# Altium integrated library Analog Devices Switches and Multiplexers Analog Switches.IntLib: 575 symbols (part 12 of 23)
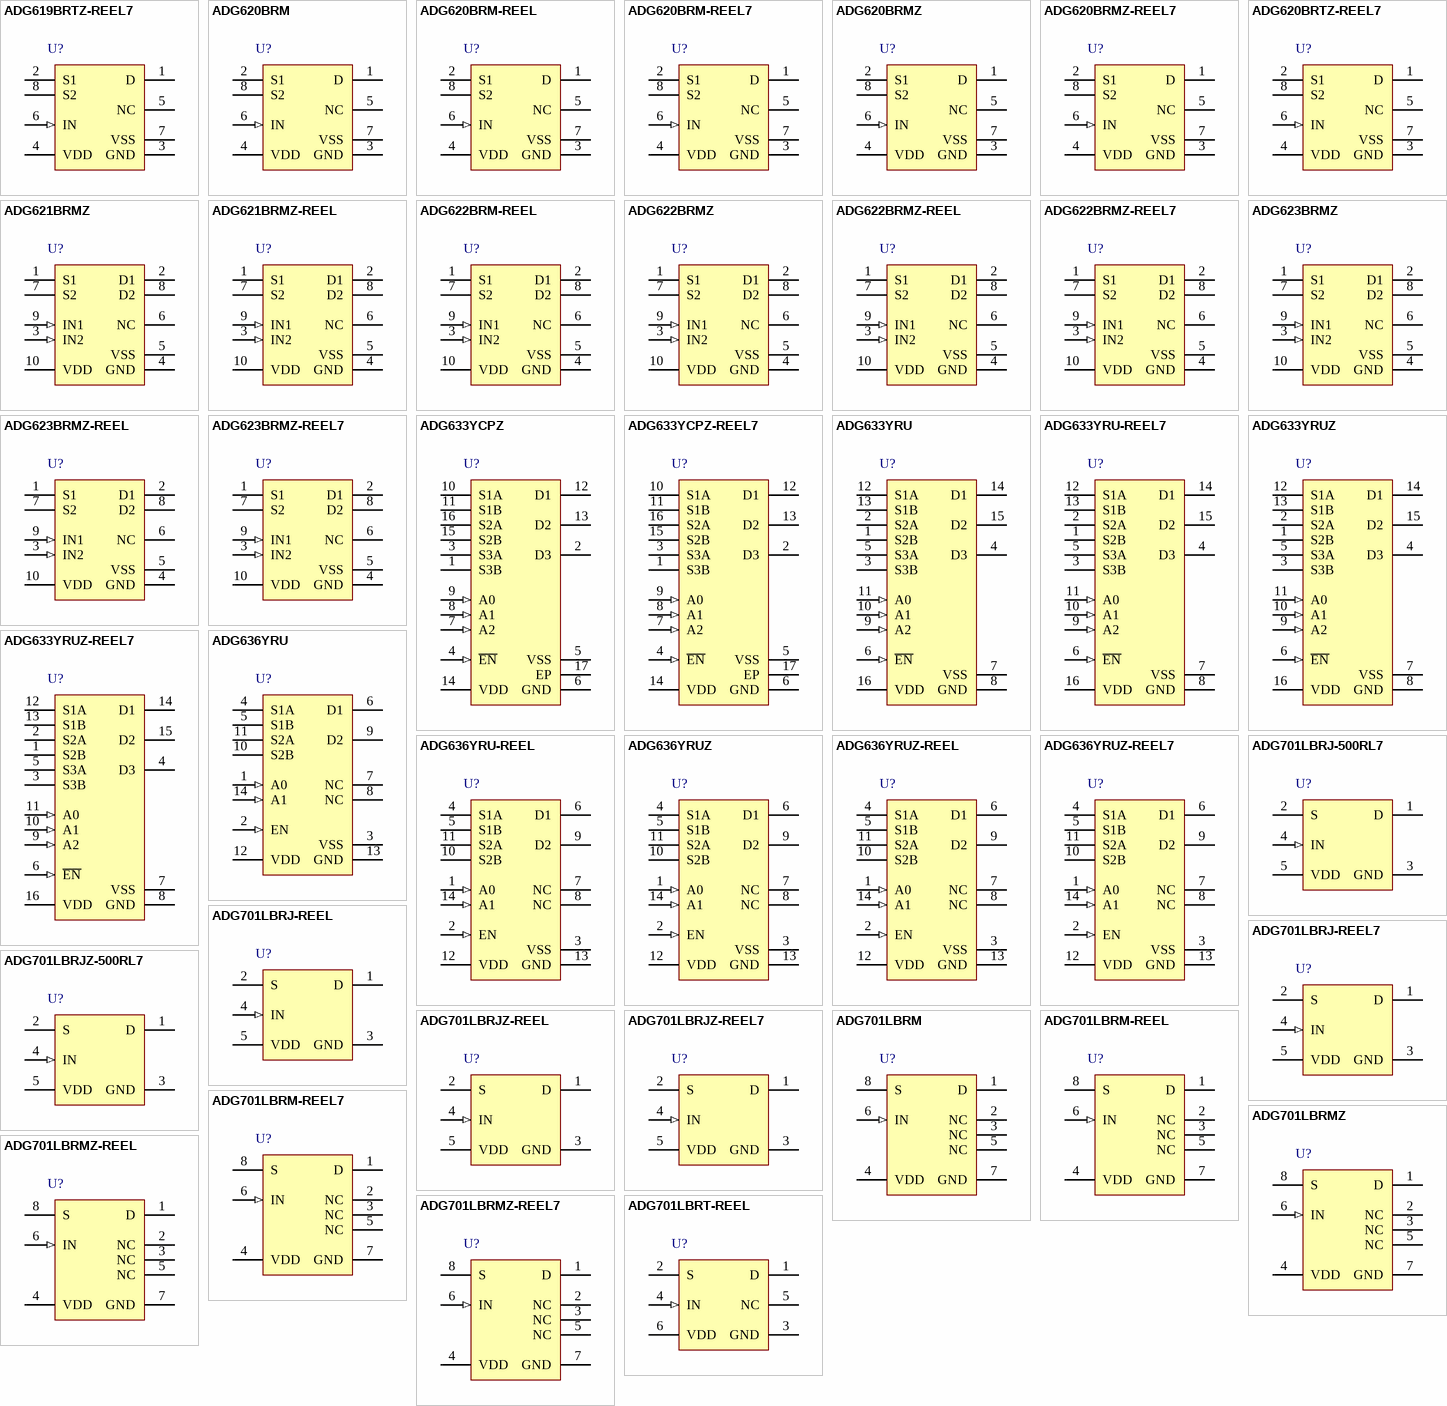
[diagram p26: symbols ADG619BRTZ-REEL7 to ADG701LBRT-REEL]

## ADG701LBRJ-500RL7
designator U?
CMOS Low Voltage 2 Ohm SPST Switch, -40 to 85 degC, 5-pin SOT23 (RJ-5), Reel; Manufacturer: Analog Devices; PartNumber: ADG701LBRJ-500RL7; Id, Is (ON): 10pA, 10pA; Max Pos Supply: 5.5V; Min Pos Supply: 1.8V; Power Dissipation: 5uW; Ron (ohms): 2; DatasheetVersion: Rev. 0; PackageVersion: 121608-A , 12/2008; PackageReference: RJ-5; PackageDescription: 5-Pin Small Outline Transistor Package, Body 2.9 x 1.6 mm, Pitch 0.95 mm; Supplier 1: Digi-Key; Supplier Part Number 1: ADG701LBRJ-500RL7-ND; Supplier 2: Mouser; Supplier Part Number 2: 584-ADG701LBRJ-500R7; Configuration: SPST; Is OFF: 10pA, 10pA; Packing: Reel; Mounting Technology: Surface Mount; Code_JEDEC: MO-178-AA; ComponentLink1Description: Manufacturer URL; ComponentLink1URL: http://www.analog.com/en/index.html; ComponentLink2Description: Datasheet; ComponentLink2URL: http://www.analog.com/static/imported-files/data_sheets/ADG701L_702L.pdf; ComponentLink3Description: Package Specification; ComponentLink3URL: http://www.analog.com/static/imported-files/packages/PKG_PDF/SOT-23(RJ)/RJ_5.pdf
footprint ADI-RJ-5_N (SOT-23, 5-Leads, Body 2.9x1.6mm, Pitch 0.95mm, IPC Medium Density)
footprint ADI-RJ-5_L (SOT-23, 5-Leads, Body 2.9x1.6mm, Pitch 0.95mm, IPC High Density)
footprint ADI-RJ-5_M (SOT-23, 5-Leads, Body 2.9x1.6mm, Pitch 0.95mm, IPC Low Density)
pins: 1 D "Drain Terminal. May be an input or output.", 2 S "Source Terminal. May be an input or output.", 3 GND (power) "Ground (0 V) Reference.", 4 IN (in) "Logic Control Input.", 5 VDD (power) "Most Positive Power Supply Potential."

## ADG701LBRJ-REEL
designator U?
CMOS Low Voltage 2 Ohm SPST Switch, -40 to 85 degC, 5-pin SOT23 (RJ-5), Reel; Manufacturer: Analog Devices; PartNumber: ADG701LBRJ-REEL; Id, Is (ON): 10pA, 10pA; Max Pos Supply: 5.5V; Min Pos Supply: 1.8V; Power Dissipation: 5uW; Ron (ohms): 2; DatasheetVersion: Rev. 0; PackageVersion: 121608-A , 12/2008; PackageReference: RJ-5; PackageDescription: 5-Pin Small Outline Transistor Package, Body 2.9 x 1.6 mm, Pitch 0.95 mm; Supplier 1: Digi-Key; Supplier Part Number 1: ADG701LBRJ-REEL-ND; Supplier 2: Mouser; Supplier Part Number 2: 584-ADG701LBRJ-R; Configuration: SPST; Is OFF: 10pA, 10pA; Packing: Reel; Mounting Technology: Surface Mount; Code_JEDEC: MO-178-AA; ComponentLink1Description: Manufacturer URL; ComponentLink1URL: http://www.analog.com/en/index.html; ComponentLink2Description: Datasheet; ComponentLink2URL: http://www.analog.com/static/imported-files/data_sheets/ADG701L_702L.pdf; ComponentLink3Description: Package Specification; ComponentLink3URL: http://www.analog.com/static/imported-files/packages/PKG_PDF/SOT-23(RJ)/RJ_5.pdf
footprint ADI-RJ-5_N (SOT-23, 5-Leads, Body 2.9x1.6mm, Pitch 0.95mm, IPC Medium Density)
footprint ADI-RJ-5_L (SOT-23, 5-Leads, Body 2.9x1.6mm, Pitch 0.95mm, IPC High Density)
footprint ADI-RJ-5_M (SOT-23, 5-Leads, Body 2.9x1.6mm, Pitch 0.95mm, IPC Low Density)
pins: 1 D "Drain Terminal. May be an input or output.", 2 S "Source Terminal. May be an input or output.", 3 GND (power) "Ground (0 V) Reference.", 4 IN (in) "Logic Control Input.", 5 VDD (power) "Most Positive Power Supply Potential."

## ADG701LBRJ-REEL7
designator U?
CMOS Low Voltage 2 Ohm SPST Switch, -40 to 85 degC, 5-pin SOT23 (RJ-5), Reel; Manufacturer: Analog Devices; PartNumber: ADG701LBRJ-REEL7; Id, Is (ON): 10pA, 10pA; Max Pos Supply: 5.5V; Min Pos Supply: 1.8V; Power Dissipation: 5uW; Ron (ohms): 2; DatasheetVersion: Rev. 0; PackageVersion: 121608-A , 12/2008; PackageReference: RJ-5; PackageDescription: 5-Pin Small Outline Transistor Package, Body 2.9 x 1.6 mm, Pitch 0.95 mm; Supplier 1: Digi-Key; Supplier Part Number 1: ADG701LBRJ-REEL7TR-ND; Supplier 2: Digi-Key; Supplier Part Number 2: ADG701LBRJ-REEL7CT-ND; Supplier 3: Digi-Key; Supplier Part Number 3: ADG701LBRJ-REEL7DKR-ND; Supplier 4: Mouser; Supplier Part Number 4: 584-ADG701LBRJ-R7; Configuration: SPST; Is OFF: 10pA, 10pA; Packing: Reel; Mounting Technology: Surface Mount; Code_JEDEC: MO-178-AA; ComponentLink1Description: Manufacturer URL; ComponentLink1URL: http://www.analog.com/en/index.html; ComponentLink2Description: Datasheet; ComponentLink2URL: http://www.analog.com/static/imported-files/data_sheets/ADG701L_702L.pdf; ComponentLink3Description: Package Specification; ComponentLink3URL: http://www.analog.com/static/imported-files/packages/PKG_PDF/SOT-23(RJ)/RJ_5.pdf
footprint ADI-RJ-5_N (SOT-23, 5-Leads, Body 2.9x1.6mm, Pitch 0.95mm, IPC Medium Density)
footprint ADI-RJ-5_L (SOT-23, 5-Leads, Body 2.9x1.6mm, Pitch 0.95mm, IPC High Density)
footprint ADI-RJ-5_M (SOT-23, 5-Leads, Body 2.9x1.6mm, Pitch 0.95mm, IPC Low Density)
pins: 1 D "Drain Terminal. May be an input or output.", 2 S "Source Terminal. May be an input or output.", 3 GND (power) "Ground (0 V) Reference.", 4 IN (in) "Logic Control Input.", 5 VDD (power) "Most Positive Power Supply Potential."

## ADG701LBRJZ-500RL7
designator U?
CMOS Low Voltage 2 Ohm SPST Switch, -40 to 85 degC, 5-pin SOT23 (RJ-5), Reel; Manufacturer: Analog Devices; PartNumber: ADG701LBRJZ-500RL7; Id, Is (ON): 10pA, 10pA; Max Pos Supply: 5.5V; Min Pos Supply: 1.8V; Power Dissipation: 5uW; Ron (ohms): 2; DatasheetVersion: Rev. 0; PackageVersion: 121608-A , 12/2008; PackageReference: RJ-5; PackageDescription: 5-Pin Small Outline Transistor Package, Body 2.9 x 1.6 mm, Pitch 0.95 mm; Supplier 1: Digi-Key; Supplier Part Number 1: ADG701LBRJZ-500RL7-ND; Supplier 2: Mouser; Supplier Part Number 2: 584-ADG701LBRJZ500R7; Configuration: SPST; Is OFF: 10pA, 10pA; Packing: Reel; Mounting Technology: Surface Mount; Code_JEDEC: MO-178-AA; ComponentLink1Description: Manufacturer URL; ComponentLink1URL: http://www.analog.com/en/index.html; ComponentLink2Description: Datasheet; ComponentLink2URL: http://www.analog.com/static/imported-files/data_sheets/ADG701L_702L.pdf; ComponentLink3Description: Package Specification; ComponentLink3URL: http://www.analog.com/static/imported-files/packages/PKG_PDF/SOT-23(RJ)/RJ_5.pdf
footprint ADI-RJ-5_N (SOT-23, 5-Leads, Body 2.9x1.6mm, Pitch 0.95mm, IPC Medium Density)
footprint ADI-RJ-5_L (SOT-23, 5-Leads, Body 2.9x1.6mm, Pitch 0.95mm, IPC High Density)
footprint ADI-RJ-5_M (SOT-23, 5-Leads, Body 2.9x1.6mm, Pitch 0.95mm, IPC Low Density)
pins: 1 D "Drain Terminal. May be an input or output.", 2 S "Source Terminal. May be an input or output.", 3 GND (power) "Ground (0 V) Reference.", 4 IN (in) "Logic Control Input.", 5 VDD (power) "Most Positive Power Supply Potential."

## ADG701LBRJZ-REEL
designator U?
CMOS Low Voltage 2 Ohm SPST Switch, -40 to 85 degC, 5-pin SOT23 (RJ-5), Reel; Manufacturer: Analog Devices; PartNumber: ADG701LBRJZ-REEL; Id, Is (ON): 10pA, 10pA; Max Pos Supply: 5.5V; Min Pos Supply: 1.8V; Power Dissipation: 5uW; Ron (ohms): 2; DatasheetVersion: Rev. 0; PackageVersion: 121608-A , 12/2008; PackageReference: RJ-5; PackageDescription: 5-Pin Small Outline Transistor Package, Body 2.9 x 1.6 mm, Pitch 0.95 mm; Supplier 1: Digi-Key; Supplier Part Number 1: ADG701LBRJZ-REEL-ND; Supplier 2: Mouser; Supplier Part Number 2: 584-ADG701LBRJZ-R; Configuration: SPST; Is OFF: 10pA, 10pA; Packing: Reel; Mounting Technology: Surface Mount; Code_JEDEC: MO-178-AA; ComponentLink1Description: Manufacturer URL; ComponentLink1URL: http://www.analog.com/en/index.html; ComponentLink2Description: Datasheet; ComponentLink2URL: http://www.analog.com/static/imported-files/data_sheets/ADG701L_702L.pdf; ComponentLink3Description: Package Specification; ComponentLink3URL: http://www.analog.com/static/imported-files/packages/PKG_PDF/SOT-23(RJ)/RJ_5.pdf
footprint ADI-RJ-5_N (SOT-23, 5-Leads, Body 2.9x1.6mm, Pitch 0.95mm, IPC Medium Density)
footprint ADI-RJ-5_L (SOT-23, 5-Leads, Body 2.9x1.6mm, Pitch 0.95mm, IPC High Density)
footprint ADI-RJ-5_M (SOT-23, 5-Leads, Body 2.9x1.6mm, Pitch 0.95mm, IPC Low Density)
pins: 1 D "Drain Terminal. May be an input or output.", 2 S "Source Terminal. May be an input or output.", 3 GND (power) "Ground (0 V) Reference.", 4 IN (in) "Logic Control Input.", 5 VDD (power) "Most Positive Power Supply Potential."

## ADG701LBRJZ-REEL7
designator U?
CMOS Low Voltage 2 Ohm SPST Switch, -40 to 85 degC, 5-pin SOT23 (RJ-5), Reel; Manufacturer: Analog Devices; PartNumber: ADG701LBRJZ-REEL7; Id, Is (ON): 10pA, 10pA; Max Pos Supply: 5.5V; Min Pos Supply: 1.8V; Power Dissipation: 5uW; Ron (ohms): 2; DatasheetVersion: Rev. 0; PackageVersion: 121608-A , 12/2008; PackageReference: RJ-5; PackageDescription: 5-Pin Small Outline Transistor Package, Body 2.9 x 1.6 mm, Pitch 0.95 mm; Supplier 1: Digi-Key; Supplier Part Number 1: ADG701LBRJZ-REEL7TR-ND; Supplier 2: Digi-Key; Supplier Part Number 2: ADG701LBRJZ-REEL7CT-ND; Supplier 3: Digi-Key; Supplier Part Number 3: ADG701LBRJZ-REEL7DKR-ND; Supplier 4: Mouser; Supplier Part Number 4: 584-ADG701LBRJZ-R7; Configuration: SPST; Is OFF: 10pA, 10pA; Packing: Reel; Mounting Technology: Surface Mount; Code_JEDEC: MO-178-AA; ComponentLink1Description: Manufacturer URL; ComponentLink1URL: http://www.analog.com/en/index.html; ComponentLink2Description: Datasheet; ComponentLink2URL: http://www.analog.com/static/imported-files/data_sheets/ADG701L_702L.pdf; ComponentLink3Description: Package Specification; ComponentLink3URL: http://www.analog.com/static/imported-files/packages/PKG_PDF/SOT-23(RJ)/RJ_5.pdf
footprint ADI-RJ-5_N (SOT-23, 5-Leads, Body 2.9x1.6mm, Pitch 0.95mm, IPC Medium Density)
footprint ADI-RJ-5_L (SOT-23, 5-Leads, Body 2.9x1.6mm, Pitch 0.95mm, IPC High Density)
footprint ADI-RJ-5_M (SOT-23, 5-Leads, Body 2.9x1.6mm, Pitch 0.95mm, IPC Low Density)
pins: 1 D "Drain Terminal. May be an input or output.", 2 S "Source Terminal. May be an input or output.", 3 GND (power) "Ground (0 V) Reference.", 4 IN (in) "Logic Control Input.", 5 VDD (power) "Most Positive Power Supply Potential."

## ADG701LBRM
designator U?
CMOS Low Voltage 2 Ohm SPST Switch, -40 to 85 degC, 8-pin SOP (RM-8), Tube; Manufacturer: Analog Devices; PartNumber: ADG701LBRM; Id, Is (ON): 10pA, 10pA; Max Pos Supply: 5.5V; Min Pos Supply: 1.8V; Power Dissipation: 5uW; Ron (ohms): 2; DatasheetVersion: Rev. 0; PackageVersion: Aug-05; PackageReference: RM-8; PackageDescription: 8-Pin Mini Small Outline Package, Body 3 x 3 mm, Pitch 0.65 mm; Supplier 1: Digi-Key; Supplier Part Number 1: ADG701LBRM-ND; Supplier 2: Mouser; Supplier Part Number 2: 584-ADG701LBRM; Configuration: SPST; Is OFF: 10pA, 10pA; Packing: Tube; Mounting Technology: Surface Mount; Code_JEDEC: MO-187-AA; ComponentLink1Description: Manufacturer URL; ComponentLink1URL: http://www.analog.com/en/index.html; ComponentLink2Description: Datasheet; ComponentLink2URL: http://www.analog.com/static/imported-files/data_sheets/ADG701L_702L.pdf; ComponentLink3Description: Package Specification; ComponentLink3URL: http://www.analog.com/static/imported-files/packages/PKG_PDF/MSOP%28RM%29/RM_8.pdf
footprint ADI-RM-8_N (SOP, 8-Leads, Body 3x3mm, Pitch 0.65mm, IPC Medium Density)
footprint ADI-RM-8_L (SOP, 8-Leads, Body 3x3mm, Pitch 0.65mm, IPC High Density)
footprint ADI-RM-8_M (SOP, 8-Leads, Body 3x3mm, Pitch 0.65mm, IPC Low Density)
pins: 1 D "Drain Terminal. Can be an input or an output.", 2 NC "No Connect. Do not connect to this pin.", 3 NC "No Connect. Do not connect to this pin.", 4 VDD (power) "Most Positive Power Supply Potential.", 5 NC "No Connect. Do not connect to this pin.", 6 IN (in) "Logic Control Input.", 7 GND (power) "Ground (0 V) Reference.", 8 S "Source Terminal. Can be an input or an output."

## ADG701LBRM-REEL
designator U?
CMOS Low Voltage 2 Ohm SPST Switch, -40 to 85 degC, 8-pin SOP (RM-8), Reel; Manufacturer: Analog Devices; PartNumber: ADG701LBRM-REEL; Id, Is (ON): 10pA, 10pA; Max Pos Supply: 5.5V; Min Pos Supply: 1.8V; Power Dissipation: 5uW; Ron (ohms): 2; DatasheetVersion: Rev. 0; PackageVersion: Aug-05; PackageReference: RM-8; PackageDescription: 8-Pin Mini Small Outline Package, Body 3 x 3 mm, Pitch 0.65 mm; Supplier 1: Digi-Key; Supplier Part Number 1: ADG701LBRM-REEL-ND; Supplier 2: Mouser; Supplier Part Number 2: 584-ADG701LBRM-R; Configuration: SPST; Is OFF: 10pA, 10pA; Packing: Reel; Mounting Technology: Surface Mount; Code_JEDEC: MO-187-AA; ComponentLink1Description: Manufacturer URL; ComponentLink1URL: http://www.analog.com/en/index.html; ComponentLink2Description: Datasheet; ComponentLink2URL: http://www.analog.com/static/imported-files/data_sheets/ADG701L_702L.pdf; ComponentLink3Description: Package Specification; ComponentLink3URL: http://www.analog.com/static/imported-files/packages/PKG_PDF/MSOP%28RM%29/RM_8.pdf
footprint ADI-RM-8_N (SOP, 8-Leads, Body 3x3mm, Pitch 0.65mm, IPC Medium Density)
footprint ADI-RM-8_L (SOP, 8-Leads, Body 3x3mm, Pitch 0.65mm, IPC High Density)
footprint ADI-RM-8_M (SOP, 8-Leads, Body 3x3mm, Pitch 0.65mm, IPC Low Density)
pins: 1 D "Drain Terminal. Can be an input or an output.", 2 NC "No Connect. Do not connect to this pin.", 3 NC "No Connect. Do not connect to this pin.", 4 VDD (power) "Most Positive Power Supply Potential.", 5 NC "No Connect. Do not connect to this pin.", 6 IN (in) "Logic Control Input.", 7 GND (power) "Ground (0 V) Reference.", 8 S "Source Terminal. Can be an input or an output."

## ADG701LBRM-REEL7
designator U?
CMOS Low Voltage 2 Ohm SPST Switch, -40 to 85 degC, 8-pin SOP (RM-8), Reel; Manufacturer: Analog Devices; PartNumber: ADG701LBRM-REEL7; Id, Is (ON): 10pA, 10pA; Max Pos Supply: 5.5V; Min Pos Supply: 1.8V; Power Dissipation: 5uW; Ron (ohms): 2; DatasheetVersion: Rev. 0; PackageVersion: Aug-05; PackageReference: RM-8; PackageDescription: 8-Pin Mini Small Outline Package, Body 3 x 3 mm, Pitch 0.65 mm; Supplier 1: Digi-Key; Supplier Part Number 1: ADG701LBRM-REEL7-ND; Supplier 2: Mouser; Supplier Part Number 2: 584-ADG701LBRM-R7; Configuration: SPST; Is OFF: 10pA, 10pA; Packing: Reel; Mounting Technology: Surface Mount; Code_JEDEC: MO-187-AA; ComponentLink1Description: Manufacturer URL; ComponentLink1URL: http://www.analog.com/en/index.html; ComponentLink2Description: Datasheet; ComponentLink2URL: http://www.analog.com/static/imported-files/data_sheets/ADG701L_702L.pdf; ComponentLink3Description: Package Specification; ComponentLink3URL: http://www.analog.com/static/imported-files/packages/PKG_PDF/MSOP%28RM%29/RM_8.pdf
footprint ADI-RM-8_N (SOP, 8-Leads, Body 3x3mm, Pitch 0.65mm, IPC Medium Density)
footprint ADI-RM-8_L (SOP, 8-Leads, Body 3x3mm, Pitch 0.65mm, IPC High Density)
footprint ADI-RM-8_M (SOP, 8-Leads, Body 3x3mm, Pitch 0.65mm, IPC Low Density)
pins: 1 D "Drain Terminal. Can be an input or an output.", 2 NC "No Connect. Do not connect to this pin.", 3 NC "No Connect. Do not connect to this pin.", 4 VDD (power) "Most Positive Power Supply Potential.", 5 NC "No Connect. Do not connect to this pin.", 6 IN (in) "Logic Control Input.", 7 GND (power) "Ground (0 V) Reference.", 8 S "Source Terminal. Can be an input or an output."

## ADG701LBRMZ
designator U?
CMOS Low Voltage 2 Ohm SPST Switch, -40 to 85 degC, 8-pin SOP (RM-8), Tube; Manufacturer: Analog Devices; PartNumber: ADG701LBRMZ; Id, Is (ON): 10pA, 10pA; Max Pos Supply: 5.5V; Min Pos Supply: 1.8V; Power Dissipation: 5uW; Ron (ohms): 2; DatasheetVersion: Rev. 0; PackageVersion: Aug-05; PackageReference: RM-8; PackageDescription: 8-Pin Mini Small Outline Package, Body 3 x 3 mm, Pitch 0.65 mm; Supplier 1: Digi-Key; Supplier Part Number 1: ADG701LBRMZ-ND; Supplier 2: Mouser; Supplier Part Number 2: 584-ADG701LBRMZ; Configuration: SPST; Is OFF: 10pA, 10pA; Packing: Tube; Mounting Technology: Surface Mount; Code_JEDEC: MO-187-AA; ComponentLink1Description: Manufacturer URL; ComponentLink1URL: http://www.analog.com/en/index.html; ComponentLink2Description: Datasheet; ComponentLink2URL: http://www.analog.com/static/imported-files/data_sheets/ADG701L_702L.pdf; ComponentLink3Description: Package Specification; ComponentLink3URL: http://www.analog.com/static/imported-files/packages/PKG_PDF/MSOP%28RM%29/RM_8.pdf
footprint ADI-RM-8_N (SOP, 8-Leads, Body 3x3mm, Pitch 0.65mm, IPC Medium Density)
footprint ADI-RM-8_L (SOP, 8-Leads, Body 3x3mm, Pitch 0.65mm, IPC High Density)
footprint ADI-RM-8_M (SOP, 8-Leads, Body 3x3mm, Pitch 0.65mm, IPC Low Density)
pins: 1 D "Drain Terminal. Can be an input or an output.", 2 NC "No Connect. Do not connect to this pin.", 3 NC "No Connect. Do not connect to this pin.", 4 VDD (power) "Most Positive Power Supply Potential.", 5 NC "No Connect. Do not connect to this pin.", 6 IN (in) "Logic Control Input.", 7 GND (power) "Ground (0 V) Reference.", 8 S "Source Terminal. Can be an input or an output."

## ADG701LBRMZ-REEL
designator U?
CMOS Low Voltage 2 Ohm SPST Switch, -40 to 85 degC, 8-pin SOP (RM-8), Reel; Manufacturer: Analog Devices; PartNumber: ADG701LBRMZ-REEL; Id, Is (ON): 10pA, 10pA; Max Pos Supply: 5.5V; Min Pos Supply: 1.8V; Power Dissipation: 5uW; Ron (ohms): 2; DatasheetVersion: Rev. 0; PackageVersion: Aug-05; PackageReference: RM-8; PackageDescription: 8-Pin Mini Small Outline Package, Body 3 x 3 mm, Pitch 0.65 mm; Supplier 1: Digi-Key; Supplier Part Number 1: ADG701LBRMZ-REEL-ND; Supplier 2: Mouser; Supplier Part Number 2: 584-ADG701LBRMZ-R; Configuration: SPST; Is OFF: 10pA, 10pA; Packing: Reel; Mounting Technology: Surface Mount; Code_JEDEC: MO-187-AA; ComponentLink1Description: Manufacturer URL; ComponentLink1URL: http://www.analog.com/en/index.html; ComponentLink2Description: Datasheet; ComponentLink2URL: http://www.analog.com/static/imported-files/data_sheets/ADG701L_702L.pdf; ComponentLink3Description: Package Specification; ComponentLink3URL: http://www.analog.com/static/imported-files/packages/PKG_PDF/MSOP%28RM%29/RM_8.pdf
footprint ADI-RM-8_N (SOP, 8-Leads, Body 3x3mm, Pitch 0.65mm, IPC Medium Density)
footprint ADI-RM-8_L (SOP, 8-Leads, Body 3x3mm, Pitch 0.65mm, IPC High Density)
footprint ADI-RM-8_M (SOP, 8-Leads, Body 3x3mm, Pitch 0.65mm, IPC Low Density)
pins: 1 D "Drain Terminal. Can be an input or an output.", 2 NC "No Connect. Do not connect to this pin.", 3 NC "No Connect. Do not connect to this pin.", 4 VDD (power) "Most Positive Power Supply Potential.", 5 NC "No Connect. Do not connect to this pin.", 6 IN (in) "Logic Control Input.", 7 GND (power) "Ground (0 V) Reference.", 8 S "Source Terminal. Can be an input or an output."

## ADG701LBRMZ-REEL7
designator U?
CMOS Low Voltage 2 Ohm SPST Switch, -40 to 85 degC, 8-pin SOP (RM-8), Reel; Manufacturer: Analog Devices; PartNumber: ADG701LBRMZ-REEL7; Id, Is (ON): 10pA, 10pA; Max Pos Supply: 5.5V; Min Pos Supply: 1.8V; Power Dissipation: 5uW; Ron (ohms): 2; DatasheetVersion: Rev. 0; PackageVersion: Aug-05; PackageReference: RM-8; PackageDescription: 8-Pin Mini Small Outline Package, Body 3 x 3 mm, Pitch 0.65 mm; Supplier 1: Digi-Key; Supplier Part Number 1: ADG701LBRMZ-REEL7-ND; Supplier 2: Mouser; Supplier Part Number 2: 584-ADG701LBRMZ-R7; Configuration: SPST; Is OFF: 10pA, 10pA; Packing: Reel; Mounting Technology: Surface Mount; Code_JEDEC: MO-187-AA; ComponentLink1Description: Manufacturer URL; ComponentLink1URL: http://www.analog.com/en/index.html; ComponentLink2Description: Datasheet; ComponentLink2URL: http://www.analog.com/static/imported-files/data_sheets/ADG701L_702L.pdf; ComponentLink3Description: Package Specification; ComponentLink3URL: http://www.analog.com/static/imported-files/packages/PKG_PDF/MSOP%28RM%29/RM_8.pdf
footprint ADI-RM-8_N (SOP, 8-Leads, Body 3x3mm, Pitch 0.65mm, IPC Medium Density)
footprint ADI-RM-8_L (SOP, 8-Leads, Body 3x3mm, Pitch 0.65mm, IPC High Density)
footprint ADI-RM-8_M (SOP, 8-Leads, Body 3x3mm, Pitch 0.65mm, IPC Low Density)
pins: 1 D "Drain Terminal. Can be an input or an output.", 2 NC "No Connect. Do not connect to this pin.", 3 NC "No Connect. Do not connect to this pin.", 4 VDD (power) "Most Positive Power Supply Potential.", 5 NC "No Connect. Do not connect to this pin.", 6 IN (in) "Logic Control Input.", 7 GND (power) "Ground (0 V) Reference.", 8 S "Source Terminal. Can be an input or an output."

## ADG701LBRT-REEL
designator U?
CMOS Low Voltage 2 Ohm SPST Switch, -40 to 85 degC, 6-pin SOT23 (RJ-6), Reel; Manufacturer: Analog Devices; PartNumber: ADG701LBRT-REEL; Id, Is (ON): 10pA, 10pA; Max Pos Supply: 5.5V; Min Pos Supply: 1.8V; Power Dissipation: 5uW; Ron (ohms): 2; DatasheetVersion: Rev. 0; PackageVersion: 121608-A, 12/2008; PackageReference: RJ-6; PackageDescription: 6-Pin Small Outline Transistor Package, Body 2.9 x 1.6 mm, Pitch 0.95 mm; Supplier 1: Digi-Key; Supplier Part Number 1: ADG701LBRT-REEL-ND; Supplier 2: Mouser; Supplier Part Number 2: 584-ADG701LBRT-R; Configuration: SPST; Is OFF: 10pA, 10pA; Packing: Reel; Mounting Technology: Surface Mount; Code_JEDEC: MO-178-AB; ComponentLink1Description: Manufacturer URL; ComponentLink1URL: http://www.analog.com/en/index.html; ComponentLink2Description: Datasheet; ComponentLink2URL: http://www.analog.com/static/imported-files/data_sheets/ADG701L_702L.pdf; ComponentLink3Description: Package Specification; ComponentLink3URL: http://www.analog.com/static/imported-files/packages/PKG_PDF/SOT-23(RJ)/RJ_6.pdf
footprint ADI-RJ-6_N (SOT23, 6-Leads, Body 2.9x1.6mm, Pitch 0.95mm, IPC Medium Density)
footprint ADI-RJ-6_L (SOT23, 6-Leads, Body 2.9x1.6mm, Pitch 0.95mm, IPC High Density)
footprint ADI-RJ-6_M (SOT23, 6-Leads, Body 2.9x1.6mm, Pitch 0.95mm, IPC Low Density)
pins: 1 D "Drain Terminal. Can be an input or an output.", 2 S "Source Terminal. Can be an input or an output.", 3 GND (power) "Ground (0 V) Reference.", 4 IN (in) "Logic Control Input.", 5 NC "No Connect. Do not connect to this pin.", 6 VDD (power) "Most Positive Power Supply Potential."

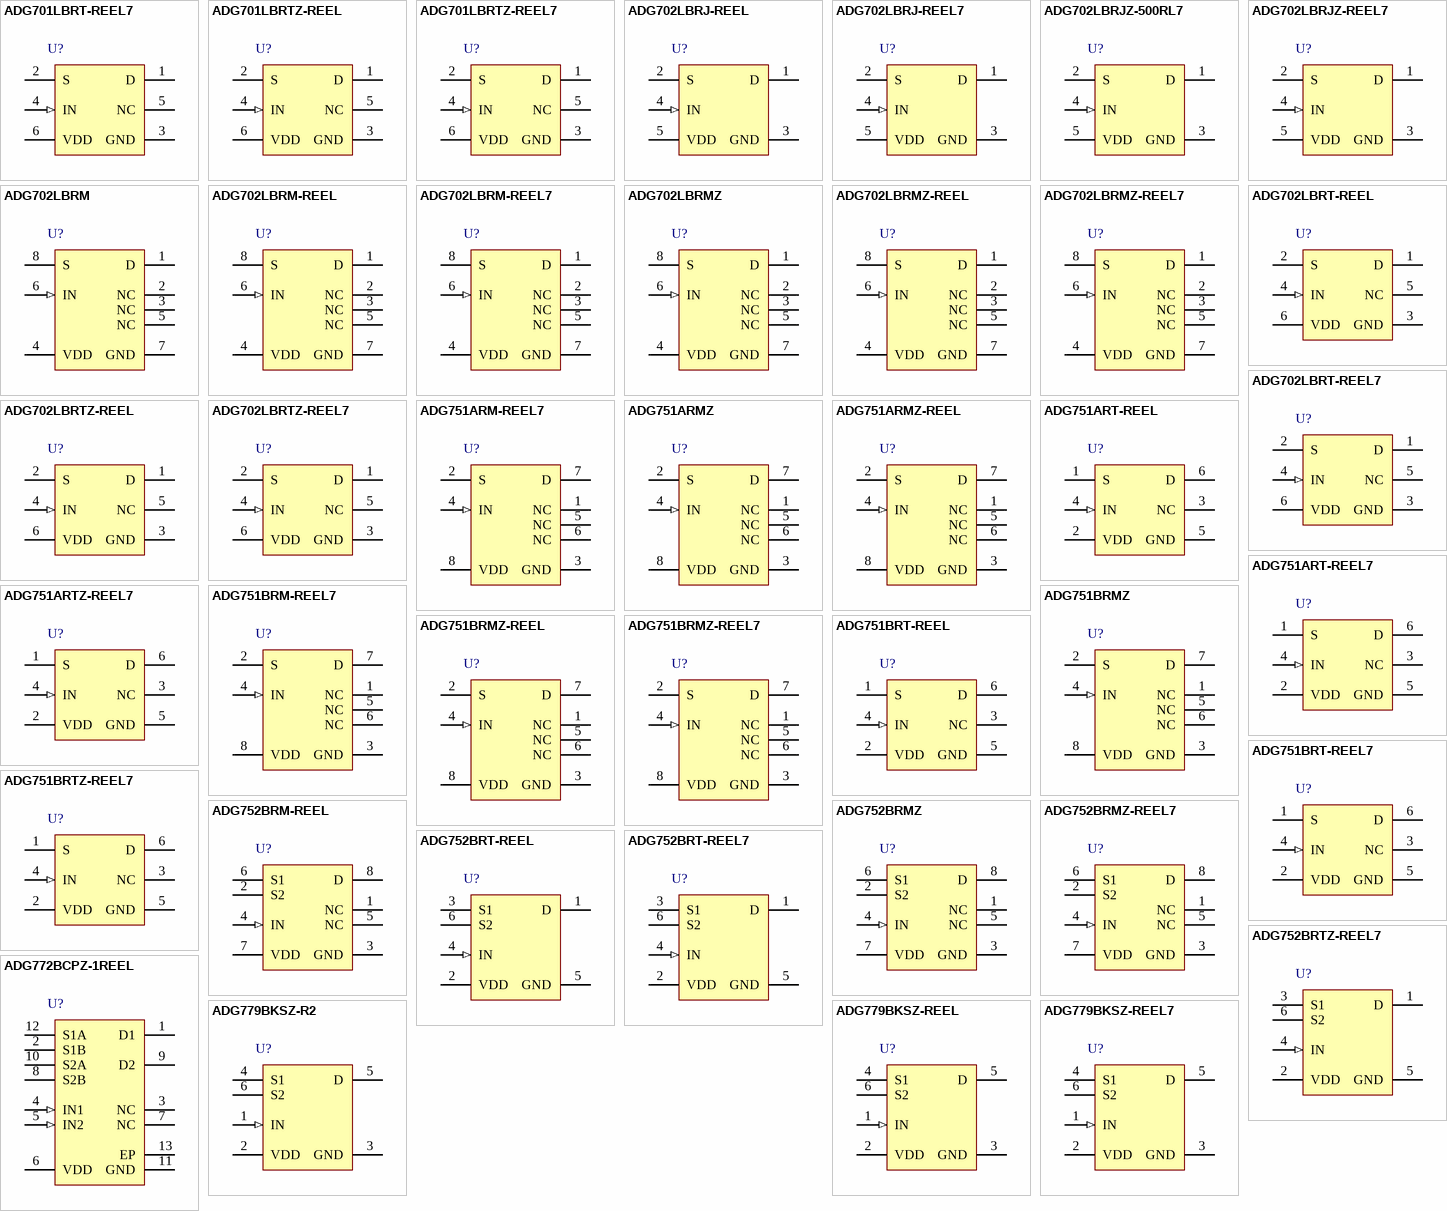
[diagram p8: symbols ADG701LBRT-REEL7 to ADG779BKSZ-REEL7]

## ADG701LBRT-REEL7
designator U?
CMOS Low Voltage 2 Ohm SPST Switch, -40 to 85 degC, 6-pin SOT23 (RJ-6), Reel; Manufacturer: Analog Devices; PartNumber: ADG701LBRT-REEL7; Id, Is (ON): 10pA, 10pA; Max Pos Supply: 5.5V; Min Pos Supply: 1.8V; Power Dissipation: 5uW; Ron (ohms): 2; DatasheetVersion: Rev. 0; PackageVersion: 121608-A, 12/2008; PackageReference: RJ-6; PackageDescription: 6-Pin Small Outline Transistor Package, Body 2.9 x 1.6 mm, Pitch 0.95 mm; Supplier 1: Digi-Key; Supplier Part Number 1: ADG701LBRT-REEL7TR-ND; Supplier 2: Digi-Key; Supplier Part Number 2: ADG701LBRT-REEL7CT-ND; Supplier 3: Digi-Key; Supplier Part Number 3: ADG701LBRT-REEL7DKR-ND; Supplier 4: Mouser; Supplier Part Number 4: 584-ADG701LBRT-R7; Configuration: SPST; Is OFF: 10pA, 10pA; Packing: Reel; Mounting Technology: Surface Mount; Code_JEDEC: MO-178-AB; ComponentLink1Description: Manufacturer URL; ComponentLink1URL: http://www.analog.com/en/index.html; ComponentLink2Description: Datasheet; ComponentLink2URL: http://www.analog.com/static/imported-files/data_sheets/ADG701L_702L.pdf; ComponentLink3Description: Package Specification; ComponentLink3URL: http://www.analog.com/static/imported-files/packages/PKG_PDF/SOT-23(RJ)/RJ_6.pdf
footprint ADI-RJ-6_N (SOT23, 6-Leads, Body 2.9x1.6mm, Pitch 0.95mm, IPC Medium Density)
footprint ADI-RJ-6_L (SOT23, 6-Leads, Body 2.9x1.6mm, Pitch 0.95mm, IPC High Density)
footprint ADI-RJ-6_M (SOT23, 6-Leads, Body 2.9x1.6mm, Pitch 0.95mm, IPC Low Density)
pins: 1 D "Drain Terminal. Can be an input or an output.", 2 S "Source Terminal. Can be an input or an output.", 3 GND (power) "Ground (0 V) Reference.", 4 IN (in) "Logic Control Input.", 5 NC "No Connect. Do not connect to this pin.", 6 VDD (power) "Most Positive Power Supply Potential."

## ADG701LBRTZ-REEL
designator U?
CMOS Low Voltage 2 Ohm SPST Switch, -40 to 85 degC, 6-pin SOT23 (RJ-6), Reel; Manufacturer: Analog Devices; PartNumber: ADG701LBRTZ-REEL; Id, Is (ON): 10pA, 10pA; Max Pos Supply: 5.5V; Min Pos Supply: 1.8V; Power Dissipation: 5uW; Ron (ohms): 2; DatasheetVersion: Rev. 0; PackageVersion: 121608-A, 12/2008; PackageReference: RJ-6; PackageDescription: 6-Pin Small Outline Transistor Package, Body 2.9 x 1.6 mm, Pitch 0.95 mm; Supplier 1: Digi-Key; Supplier Part Number 1: ADG701LBRTZ-REEL-ND; Supplier 2: Newark; Supplier Part Number 2: 28M3610; Supplier 3: Mouser; Supplier Part Number 3: 584-ADG701LBRTZ-R; Configuration: SPST; Is OFF: 10pA, 10pA; Packing: Reel; Mounting Technology: Surface Mount; Code_JEDEC: MO-178-AB; ComponentLink1Description: Manufacturer URL; ComponentLink1URL: http://www.analog.com/en/index.html; ComponentLink2Description: Datasheet; ComponentLink2URL: http://www.analog.com/static/imported-files/data_sheets/ADG701L_702L.pdf; ComponentLink3Description: Package Specification; ComponentLink3URL: http://www.analog.com/static/imported-files/packages/PKG_PDF/SOT-23(RJ)/RJ_6.pdf
footprint ADI-RJ-6_N (SOT23, 6-Leads, Body 2.9x1.6mm, Pitch 0.95mm, IPC Medium Density)
footprint ADI-RJ-6_L (SOT23, 6-Leads, Body 2.9x1.6mm, Pitch 0.95mm, IPC High Density)
footprint ADI-RJ-6_M (SOT23, 6-Leads, Body 2.9x1.6mm, Pitch 0.95mm, IPC Low Density)
pins: 1 D "Drain Terminal. Can be an input or an output.", 2 S "Source Terminal. Can be an input or an output.", 3 GND (power) "Ground (0 V) Reference.", 4 IN (in) "Logic Control Input.", 5 NC "No Connect. Do not connect to this pin.", 6 VDD (power) "Most Positive Power Supply Potential."

## ADG701LBRTZ-REEL7
designator U?
CMOS Low Voltage 2 Ohm SPST Switch, -40 to 85 degC, 6-pin SOT23 (RJ-6), Reel; Manufacturer: Analog Devices; PartNumber: ADG701LBRTZ-REEL7; Id, Is (ON): 10pA, 10pA; Max Pos Supply: 5.5V; Min Pos Supply: 1.8V; Power Dissipation: 5uW; Ron (ohms): 2; DatasheetVersion: Rev. 0; PackageVersion: 121608-A, 12/2008; PackageReference: RJ-6; PackageDescription: 6-Pin Small Outline Transistor Package, Body 2.9 x 1.6 mm, Pitch 0.95 mm; Supplier 1: Digi-Key; Supplier Part Number 1: ADG701LBRTZ-REEL7TR-ND; Supplier 2: Digi-Key; Supplier Part Number 2: ADG701LBRTZ-REEL7CT-ND; Supplier 3: Digi-Key; Supplier Part Number 3: ADG701LBRTZ-REEL7DKR-ND; Supplier 4: Farnell; Supplier Part Number 4: 2074894; Supplier 5: Farnell; Supplier Part Number 5: 2074894RL; Supplier 6: Newark; Supplier Part Number 6: 67W2638; Supplier 7: Newark; Supplier Part Number 7: 28M3611; Supplier 8: Mouser; Supplier Part Number 8: 584-ADG701LBRTZ-R7; Configuration: SPST; Is OFF: 10pA, 10pA; Packing: Reel; Mounting Technology: Surface Mount; Code_JEDEC: MO-178-AB; ComponentLink1Description: Manufacturer URL; ComponentLink1URL: http://www.analog.com/en/index.html; ComponentLink2Description: Datasheet; ComponentLink2URL: http://www.analog.com/static/imported-files/data_sheets/ADG701L_702L.pdf; ComponentLink3Description: Package Specification; ComponentLink3URL: http://www.analog.com/static/imported-files/packages/PKG_PDF/SOT-23(RJ)/RJ_6.pdf
footprint ADI-RJ-6_N (SOT23, 6-Leads, Body 2.9x1.6mm, Pitch 0.95mm, IPC Medium Density)
footprint ADI-RJ-6_L (SOT23, 6-Leads, Body 2.9x1.6mm, Pitch 0.95mm, IPC High Density)
footprint ADI-RJ-6_M (SOT23, 6-Leads, Body 2.9x1.6mm, Pitch 0.95mm, IPC Low Density)
pins: 1 D "Drain Terminal. Can be an input or an output.", 2 S "Source Terminal. Can be an input or an output.", 3 GND (power) "Ground (0 V) Reference.", 4 IN (in) "Logic Control Input.", 5 NC "No Connect. Do not connect to this pin.", 6 VDD (power) "Most Positive Power Supply Potential."

## ADG702LBRJ-REEL
designator U?
CMOS Low Voltage 2 Ohm SPST Switch, -40 to 85 degC, 5-pin SOT23 (RJ-5), Reel; Manufacturer: Analog Devices; PartNumber: ADG702LBRJ-REEL; Id, Is (ON): 10pA, 10pA; Max Pos Supply: 5.5V; Min Pos Supply: 1.8V; Power Dissipation: 5uW; Ron (ohms): 2; DatasheetVersion: Rev. 0; PackageVersion: 121608-A , 12/2008; PackageReference: RJ-5; PackageDescription: 5-Pin Small Outline Transistor Package, Body 2.9 x 1.6 mm, Pitch 0.95 mm; Supplier 1: Mouser; Supplier Part Number 1: N/A; Configuration: SPST; Is OFF: 10pA, 10pA; Packing: Reel; Mounting Technology: Surface Mount; Code_JEDEC: MO-178-AA; ComponentLink1Description: Manufacturer URL; ComponentLink1URL: http://www.analog.com/en/index.html; ComponentLink2Description: Datasheet; ComponentLink2URL: http://www.analog.com/static/imported-files/data_sheets/ADG701L_702L.pdf; ComponentLink3Description: Package Specification; ComponentLink3URL: http://www.analog.com/static/imported-files/packages/PKG_PDF/SOT-23(RJ)/RJ_5.pdf
footprint ADI-RJ-5_N (SOT-23, 5-Leads, Body 2.9x1.6mm, Pitch 0.95mm, IPC Medium Density)
footprint ADI-RJ-5_L (SOT-23, 5-Leads, Body 2.9x1.6mm, Pitch 0.95mm, IPC High Density)
footprint ADI-RJ-5_M (SOT-23, 5-Leads, Body 2.9x1.6mm, Pitch 0.95mm, IPC Low Density)
pins: 1 D "Drain Terminal. May be an input or output.", 2 S "Source Terminal. May be an input or output.", 3 GND (power) "Ground (0 V) Reference.", 4 IN (in) "Logic Control Input.", 5 VDD (power) "Most Positive Power Supply Potential."

## ADG702LBRJ-REEL7
designator U?
CMOS Low Voltage 2 Ohm SPST Switch, -40 to 85 degC, 5-pin SOT23 (RJ-5), Reel; Manufacturer: Analog Devices; PartNumber: ADG702LBRJ-REEL7; Id, Is (ON): 10pA, 10pA; Max Pos Supply: 5.5V; Min Pos Supply: 1.8V; Power Dissipation: 5uW; Ron (ohms): 2; DatasheetVersion: Rev. 0; PackageVersion: 121608-A , 12/2008; PackageReference: RJ-5; PackageDescription: 5-Pin Small Outline Transistor Package, Body 2.9 x 1.6 mm, Pitch 0.95 mm; Supplier 1: Digi-Key; Supplier Part Number 1: ADG702LBRJ-REEL7TR-ND; Supplier 2: Digi-Key; Supplier Part Number 2: ADG702LBRJ-REEL7CT-ND; Supplier 3: Digi-Key; Supplier Part Number 3: ADG702LBRJ-REEL7DKR-ND; Supplier 4: Mouser; Supplier Part Number 4: 584-ADG702LBRJ-R7; Configuration: SPST; Is OFF: 10pA, 10pA; Packing: Reel; Mounting Technology: Surface Mount; Code_JEDEC: MO-178-AA; ComponentLink1Description: Manufacturer URL; ComponentLink1URL: http://www.analog.com/en/index.html; ComponentLink2Description: Datasheet; ComponentLink2URL: http://www.analog.com/static/imported-files/data_sheets/ADG701L_702L.pdf; ComponentLink3Description: Package Specification; ComponentLink3URL: http://www.analog.com/static/imported-files/packages/PKG_PDF/SOT-23(RJ)/RJ_5.pdf
footprint ADI-RJ-5_N (SOT-23, 5-Leads, Body 2.9x1.6mm, Pitch 0.95mm, IPC Medium Density)
footprint ADI-RJ-5_L (SOT-23, 5-Leads, Body 2.9x1.6mm, Pitch 0.95mm, IPC High Density)
footprint ADI-RJ-5_M (SOT-23, 5-Leads, Body 2.9x1.6mm, Pitch 0.95mm, IPC Low Density)
pins: 1 D "Drain Terminal. May be an input or output.", 2 S "Source Terminal. May be an input or output.", 3 GND (power) "Ground (0 V) Reference.", 4 IN (in) "Logic Control Input.", 5 VDD (power) "Most Positive Power Supply Potential."

## ADG702LBRJZ-500RL7
designator U?
CMOS Low Voltage 2 Ohm SPST Switch, -40 to 85 degC, 5-pin SOT23 (RJ-5), Reel; Manufacturer: Analog Devices; PartNumber: ADG702LBRJZ-500RL7; Id, Is (ON): 10pA, 10pA; Max Pos Supply: 5.5V; Min Pos Supply: 1.8V; Power Dissipation: 5uW; Ron (ohms): 2; DatasheetVersion: Rev. 0; PackageVersion: 121608-A , 12/2008; PackageReference: RJ-5; PackageDescription: 5-Pin Small Outline Transistor Package, Body 2.9 x 1.6 mm, Pitch 0.95 mm; Supplier 1: Digi-Key; Supplier Part Number 1: ADG702LBRJZ-500RL7-ND; Supplier 2: Mouser; Supplier Part Number 2: 584-ADG702LBRJZ500R7; Configuration: SPST; Is OFF: 10pA, 10pA; Packing: Reel; Mounting Technology: Surface Mount; Code_JEDEC: MO-178-AA; ComponentLink1Description: Manufacturer URL; ComponentLink1URL: http://www.analog.com/en/index.html; ComponentLink2Description: Datasheet; ComponentLink2URL: http://www.analog.com/static/imported-files/data_sheets/ADG701L_702L.pdf; ComponentLink3Description: Package Specification; ComponentLink3URL: http://www.analog.com/static/imported-files/packages/PKG_PDF/SOT-23(RJ)/RJ_5.pdf
footprint ADI-RJ-5_N (SOT-23, 5-Leads, Body 2.9x1.6mm, Pitch 0.95mm, IPC Medium Density)
footprint ADI-RJ-5_L (SOT-23, 5-Leads, Body 2.9x1.6mm, Pitch 0.95mm, IPC High Density)
footprint ADI-RJ-5_M (SOT-23, 5-Leads, Body 2.9x1.6mm, Pitch 0.95mm, IPC Low Density)
pins: 1 D "Drain Terminal. May be an input or output.", 2 S "Source Terminal. May be an input or output.", 3 GND (power) "Ground (0 V) Reference.", 4 IN (in) "Logic Control Input.", 5 VDD (power) "Most Positive Power Supply Potential."

## ADG702LBRJZ-REEL7
designator U?
CMOS Low Voltage 2 Ohm SPST Switch, -40 to 85 degC, 5-pin SOT23 (RJ-5), Reel; Manufacturer: Analog Devices; PartNumber: ADG702LBRJZ-REEL7; Id, Is (ON): 10pA, 10pA; Max Pos Supply: 5.5V; Min Pos Supply: 1.8V; Power Dissipation: 5uW; Ron (ohms): 2; DatasheetVersion: Rev. 0; PackageVersion: 121608-A , 12/2008; PackageReference: RJ-5; PackageDescription: 5-Pin Small Outline Transistor Package, Body 2.9 x 1.6 mm, Pitch 0.95 mm; Supplier 1: Digi-Key; Supplier Part Number 1: ADG702LBRJZ-REEL7TR-ND; Supplier 2: Digi-Key; Supplier Part Number 2: ADG702LBRJZ-REEL7CT-ND; Supplier 3: Digi-Key; Supplier Part Number 3: ADG702LBRJZ-REEL7DKR-ND; Supplier 4: Mouser; Supplier Part Number 4: 584-ADG702LBRJZ-R7; Configuration: SPST; Is OFF: 10pA, 10pA; Packing: Reel; Mounting Technology: Surface Mount; Code_JEDEC: MO-178-AA; ComponentLink1Description: Manufacturer URL; ComponentLink1URL: http://www.analog.com/en/index.html; ComponentLink2Description: Datasheet; ComponentLink2URL: http://www.analog.com/static/imported-files/data_sheets/ADG701L_702L.pdf; ComponentLink3Description: Package Specification; ComponentLink3URL: http://www.analog.com/static/imported-files/packages/PKG_PDF/SOT-23(RJ)/RJ_5.pdf
footprint ADI-RJ-5_N (SOT-23, 5-Leads, Body 2.9x1.6mm, Pitch 0.95mm, IPC Medium Density)
footprint ADI-RJ-5_L (SOT-23, 5-Leads, Body 2.9x1.6mm, Pitch 0.95mm, IPC High Density)
footprint ADI-RJ-5_M (SOT-23, 5-Leads, Body 2.9x1.6mm, Pitch 0.95mm, IPC Low Density)
pins: 1 D "Drain Terminal. May be an input or output.", 2 S "Source Terminal. May be an input or output.", 3 GND (power) "Ground (0 V) Reference.", 4 IN (in) "Logic Control Input.", 5 VDD (power) "Most Positive Power Supply Potential."

## ADG702LBRM
designator U?
CMOS Low Voltage 2 Ohm SPST Switch, -40 to 85 degC, 8-pin SOP (RM-8), Tube; Manufacturer: Analog Devices; PartNumber: ADG702LBRM; Id, Is (ON): 10pA, 10pA; Max Pos Supply: 5.5V; Min Pos Supply: 1.8V; Power Dissipation: 5uW; Ron (ohms): 2; DatasheetVersion: Rev. 0; PackageVersion: Aug-05; PackageReference: RM-8; PackageDescription: 8-Pin Mini Small Outline Package, Body 3 x 3 mm, Pitch 0.65 mm; Supplier 1: Digi-Key; Supplier Part Number 1: ADG702LBRM-ND; Supplier 2: Mouser; Supplier Part Number 2: 584-ADG702LBRM; Configuration: SPST; Is OFF: 10pA, 10pA; Packing: Tube; Mounting Technology: Surface Mount; Code_JEDEC: MO-187-AA; ComponentLink1Description: Manufacturer URL; ComponentLink1URL: http://www.analog.com/en/index.html; ComponentLink2Description: Datasheet; ComponentLink2URL: http://www.analog.com/static/imported-files/data_sheets/ADG701L_702L.pdf; ComponentLink3Description: Package Specification; ComponentLink3URL: http://www.analog.com/static/imported-files/packages/PKG_PDF/MSOP%28RM%29/RM_8.pdf
footprint ADI-RM-8_N (SOP, 8-Leads, Body 3x3mm, Pitch 0.65mm, IPC Medium Density)
footprint ADI-RM-8_L (SOP, 8-Leads, Body 3x3mm, Pitch 0.65mm, IPC High Density)
footprint ADI-RM-8_M (SOP, 8-Leads, Body 3x3mm, Pitch 0.65mm, IPC Low Density)
pins: 1 D "Drain Terminal. Can be an input or an output.", 2 NC "No Connect. Do not connect to this pin.", 3 NC "No Connect. Do not connect to this pin.", 4 VDD (power) "Most Positive Power Supply Potential.", 5 NC "No Connect. Do not connect to this pin.", 6 IN (in) "Logic Control Input.", 7 GND (power) "Ground (0 V) Reference.", 8 S "Source Terminal. Can be an input or an output."

## ADG702LBRM-REEL
designator U?
CMOS Low Voltage 2 Ohm SPST Switch, -40 to 85 degC, 8-pin SOP (RM-8), Reel; Manufacturer: Analog Devices; PartNumber: ADG702LBRM-REEL; Id, Is (ON): 10pA, 10pA; Max Pos Supply: 5.5V; Min Pos Supply: 1.8V; Power Dissipation: 5uW; Ron (ohms): 2; DatasheetVersion: Rev. 0; PackageVersion: Aug-05; PackageReference: RM-8; PackageDescription: 8-Pin Mini Small Outline Package, Body 3 x 3 mm, Pitch 0.65 mm; Supplier 1: Digi-Key; Supplier Part Number 1: ADG702LBRM-REEL-ND; Supplier 2: Mouser; Supplier Part Number 2: 584-ADG702LBRM-R; Configuration: SPST; Is OFF: 10pA, 10pA; Packing: Reel; Mounting Technology: Surface Mount; Code_JEDEC: MO-187-AA; ComponentLink1Description: Manufacturer URL; ComponentLink1URL: http://www.analog.com/en/index.html; ComponentLink2Description: Datasheet; ComponentLink2URL: http://www.analog.com/static/imported-files/data_sheets/ADG701L_702L.pdf; ComponentLink3Description: Package Specification; ComponentLink3URL: http://www.analog.com/static/imported-files/packages/PKG_PDF/MSOP%28RM%29/RM_8.pdf
footprint ADI-RM-8_N (SOP, 8-Leads, Body 3x3mm, Pitch 0.65mm, IPC Medium Density)
footprint ADI-RM-8_L (SOP, 8-Leads, Body 3x3mm, Pitch 0.65mm, IPC High Density)
footprint ADI-RM-8_M (SOP, 8-Leads, Body 3x3mm, Pitch 0.65mm, IPC Low Density)
pins: 1 D "Drain Terminal. Can be an input or an output.", 2 NC "No Connect. Do not connect to this pin.", 3 NC "No Connect. Do not connect to this pin.", 4 VDD (power) "Most Positive Power Supply Potential.", 5 NC "No Connect. Do not connect to this pin.", 6 IN (in) "Logic Control Input.", 7 GND (power) "Ground (0 V) Reference.", 8 S "Source Terminal. Can be an input or an output."

## ADG702LBRM-REEL7
designator U?
CMOS Low Voltage 2 Ohm SPST Switch, -40 to 85 degC, 8-pin SOP (RM-8), Reel; Manufacturer: Analog Devices; PartNumber: ADG702LBRM-REEL7; Id, Is (ON): 10pA, 10pA; Max Pos Supply: 5.5V; Min Pos Supply: 1.8V; Power Dissipation: 5uW; Ron (ohms): 2; DatasheetVersion: Rev. 0; PackageVersion: Aug-05; PackageReference: RM-8; PackageDescription: 8-Pin Mini Small Outline Package, Body 3 x 3 mm, Pitch 0.65 mm; Supplier 1: Digi-Key; Supplier Part Number 1: ADG702LBRM-REEL7-ND; Supplier 2: Mouser; Supplier Part Number 2: 584-ADG702LBRM-R7; Configuration: SPST; Is OFF: 10pA, 10pA; Packing: Reel; Mounting Technology: Surface Mount; Code_JEDEC: MO-187-AA; ComponentLink1Description: Manufacturer URL; ComponentLink1URL: http://www.analog.com/en/index.html; ComponentLink2Description: Datasheet; ComponentLink2URL: http://www.analog.com/static/imported-files/data_sheets/ADG701L_702L.pdf; ComponentLink3Description: Package Specification; ComponentLink3URL: http://www.analog.com/static/imported-files/packages/PKG_PDF/MSOP%28RM%29/RM_8.pdf
footprint ADI-RM-8_N (SOP, 8-Leads, Body 3x3mm, Pitch 0.65mm, IPC Medium Density)
footprint ADI-RM-8_L (SOP, 8-Leads, Body 3x3mm, Pitch 0.65mm, IPC High Density)
footprint ADI-RM-8_M (SOP, 8-Leads, Body 3x3mm, Pitch 0.65mm, IPC Low Density)
pins: 1 D "Drain Terminal. Can be an input or an output.", 2 NC "No Connect. Do not connect to this pin.", 3 NC "No Connect. Do not connect to this pin.", 4 VDD (power) "Most Positive Power Supply Potential.", 5 NC "No Connect. Do not connect to this pin.", 6 IN (in) "Logic Control Input.", 7 GND (power) "Ground (0 V) Reference.", 8 S "Source Terminal. Can be an input or an output."

## ADG702LBRMZ
designator U?
CMOS Low Voltage 2 Ohm SPST Switch, -40 to 85 degC, 8-pin SOP (RM-8), Tube; Manufacturer: Analog Devices; PartNumber: ADG702LBRMZ; Id, Is (ON): 10pA, 10pA; Max Pos Supply: 5.5V; Min Pos Supply: 1.8V; Power Dissipation: 5uW; Ron (ohms): 2; DatasheetVersion: Rev. 0; PackageVersion: Aug-05; PackageReference: RM-8; PackageDescription: 8-Pin Mini Small Outline Package, Body 3 x 3 mm, Pitch 0.65 mm; Supplier 1: Digi-Key; Supplier Part Number 1: ADG702LBRMZ-ND; Supplier 2: Farnell; Supplier Part Number 2: 1498698; Supplier 3: Mouser; Supplier Part Number 3: 584-ADG702LBRMZ; Configuration: SPST; Is OFF: 10pA, 10pA; Packing: Tube; Mounting Technology: Surface Mount; Code_JEDEC: MO-187-AA; ComponentLink1Description: Manufacturer URL; ComponentLink1URL: http://www.analog.com/en/index.html; ComponentLink2Description: Datasheet; ComponentLink2URL: http://www.analog.com/static/imported-files/data_sheets/ADG701L_702L.pdf; ComponentLink3Description: Package Specification; ComponentLink3URL: http://www.analog.com/static/imported-files/packages/PKG_PDF/MSOP%28RM%29/RM_8.pdf
footprint ADI-RM-8_N (SOP, 8-Leads, Body 3x3mm, Pitch 0.65mm, IPC Medium Density)
footprint ADI-RM-8_L (SOP, 8-Leads, Body 3x3mm, Pitch 0.65mm, IPC High Density)
footprint ADI-RM-8_M (SOP, 8-Leads, Body 3x3mm, Pitch 0.65mm, IPC Low Density)
pins: 1 D "Drain Terminal. Can be an input or an output.", 2 NC "No Connect. Do not connect to this pin.", 3 NC "No Connect. Do not connect to this pin.", 4 VDD (power) "Most Positive Power Supply Potential.", 5 NC "No Connect. Do not connect to this pin.", 6 IN (in) "Logic Control Input.", 7 GND (power) "Ground (0 V) Reference.", 8 S "Source Terminal. Can be an input or an output."

## ADG702LBRMZ-REEL
designator U?
CMOS Low Voltage 2 Ohm SPST Switch, -40 to 85 degC, 8-pin SOP (RM-8), Reel; Manufacturer: Analog Devices; PartNumber: ADG702LBRMZ-REEL; Id, Is (ON): 10pA, 10pA; Max Pos Supply: 5.5V; Min Pos Supply: 1.8V; Power Dissipation: 5uW; Ron (ohms): 2; DatasheetVersion: Rev. 0; PackageVersion: Aug-05; PackageReference: RM-8; PackageDescription: 8-Pin Mini Small Outline Package, Body 3 x 3 mm, Pitch 0.65 mm; Supplier 1: Digi-Key; Supplier Part Number 1: ADG702LBRMZ-REEL-ND; Supplier 2: Mouser; Supplier Part Number 2: 584-ADG702LBRMZ-R; Configuration: SPST; Is OFF: 10pA, 10pA; Packing: Reel; Mounting Technology: Surface Mount; Code_JEDEC: MO-187-AA; ComponentLink1Description: Manufacturer URL; ComponentLink1URL: http://www.analog.com/en/index.html; ComponentLink2Description: Datasheet; ComponentLink2URL: http://www.analog.com/static/imported-files/data_sheets/ADG701L_702L.pdf; ComponentLink3Description: Package Specification; ComponentLink3URL: http://www.analog.com/static/imported-files/packages/PKG_PDF/MSOP%28RM%29/RM_8.pdf
footprint ADI-RM-8_N (SOP, 8-Leads, Body 3x3mm, Pitch 0.65mm, IPC Medium Density)
footprint ADI-RM-8_L (SOP, 8-Leads, Body 3x3mm, Pitch 0.65mm, IPC High Density)
footprint ADI-RM-8_M (SOP, 8-Leads, Body 3x3mm, Pitch 0.65mm, IPC Low Density)
pins: 1 D "Drain Terminal. Can be an input or an output.", 2 NC "No Connect. Do not connect to this pin.", 3 NC "No Connect. Do not connect to this pin.", 4 VDD (power) "Most Positive Power Supply Potential.", 5 NC "No Connect. Do not connect to this pin.", 6 IN (in) "Logic Control Input.", 7 GND (power) "Ground (0 V) Reference.", 8 S "Source Terminal. Can be an input or an output."

## ADG702LBRMZ-REEL7
designator U?
CMOS Low Voltage 2 Ohm SPST Switch, -40 to 85 degC, 8-pin SOP (RM-8), Reel; Manufacturer: Analog Devices; PartNumber: ADG702LBRMZ-REEL7; Id, Is (ON): 10pA, 10pA; Max Pos Supply: 5.5V; Min Pos Supply: 1.8V; Power Dissipation: 5uW; Ron (ohms): 2; DatasheetVersion: Rev. 0; PackageVersion: Aug-05; PackageReference: RM-8; PackageDescription: 8-Pin Mini Small Outline Package, Body 3 x 3 mm, Pitch 0.65 mm; Supplier 1: Digi-Key; Supplier Part Number 1: ADG702LBRMZ-REEL7-ND; Supplier 2: Mouser; Supplier Part Number 2: 584-ADG702LBRMZ-R7; Configuration: SPST; Is OFF: 10pA, 10pA; Packing: Reel; Mounting Technology: Surface Mount; Code_JEDEC: MO-187-AA; ComponentLink1Description: Manufacturer URL; ComponentLink1URL: http://www.analog.com/en/index.html; ComponentLink2Description: Datasheet; ComponentLink2URL: http://www.analog.com/static/imported-files/data_sheets/ADG701L_702L.pdf; ComponentLink3Description: Package Specification; ComponentLink3URL: http://www.analog.com/static/imported-files/packages/PKG_PDF/MSOP%28RM%29/RM_8.pdf
footprint ADI-RM-8_N (SOP, 8-Leads, Body 3x3mm, Pitch 0.65mm, IPC Medium Density)
footprint ADI-RM-8_L (SOP, 8-Leads, Body 3x3mm, Pitch 0.65mm, IPC High Density)
footprint ADI-RM-8_M (SOP, 8-Leads, Body 3x3mm, Pitch 0.65mm, IPC Low Density)
pins: 1 D "Drain Terminal. Can be an input or an output.", 2 NC "No Connect. Do not connect to this pin.", 3 NC "No Connect. Do not connect to this pin.", 4 VDD (power) "Most Positive Power Supply Potential.", 5 NC "No Connect. Do not connect to this pin.", 6 IN (in) "Logic Control Input.", 7 GND (power) "Ground (0 V) Reference.", 8 S "Source Terminal. Can be an input or an output."

## ADG702LBRT-REEL
designator U?
CMOS Low Voltage 2 Ohm SPST Switch, -40 to 85 degC, 6-pin SOT23 (RJ-6), Reel; Manufacturer: Analog Devices; PartNumber: ADG702LBRT-REEL; Id, Is (ON): 10pA, 10pA; Max Pos Supply: 5.5V; Min Pos Supply: 1.8V; Power Dissipation: 5uW; Ron (ohms): 2; DatasheetVersion: Rev. 0; PackageVersion: 121608-A, 12/2008; PackageReference: RJ-6; PackageDescription: 6-Pin Small Outline Transistor Package, Body 2.9 x 1.6 mm, Pitch 0.95 mm; Supplier 1: Digi-Key; Supplier Part Number 1: ADG702LBRT-REEL-ND; Supplier 2: Mouser; Supplier Part Number 2: 584-ADG702LBRT-R; Configuration: SPST; Is OFF: 10pA, 10pA; Packing: Reel; Mounting Technology: Surface Mount; Code_JEDEC: MO-178-AB; ComponentLink1Description: Manufacturer URL; ComponentLink1URL: http://www.analog.com/en/index.html; ComponentLink2Description: Datasheet; ComponentLink2URL: http://www.analog.com/static/imported-files/data_sheets/ADG701L_702L.pdf; ComponentLink3Description: Package Specification; ComponentLink3URL: http://www.analog.com/static/imported-files/packages/PKG_PDF/SOT-23(RJ)/RJ_6.pdf
footprint ADI-RJ-6_N (SOT23, 6-Leads, Body 2.9x1.6mm, Pitch 0.95mm, IPC Medium Density)
footprint ADI-RJ-6_L (SOT23, 6-Leads, Body 2.9x1.6mm, Pitch 0.95mm, IPC High Density)
footprint ADI-RJ-6_M (SOT23, 6-Leads, Body 2.9x1.6mm, Pitch 0.95mm, IPC Low Density)
pins: 1 D "Drain Terminal. May be an input or output.", 2 S "Source Terminal. May be an input or output.", 3 GND (power) "Ground (0 V) Reference", 4 IN (in) "Logic Control Input", 5 NC "No Connect.", 6 VDD (power) "Most Positive Power Supply Potential."

## ADG702LBRT-REEL7
designator U?
CMOS Low Voltage 2 Ohm SPST Switch, -40 to 85 degC, 6-pin SOT23 (RJ-6), Reel; Manufacturer: Analog Devices; PartNumber: ADG702LBRT-REEL7; Id, Is (ON): 10pA, 10pA; Max Pos Supply: 5.5V; Min Pos Supply: 1.8V; Power Dissipation: 5uW; Ron (ohms): 2; DatasheetVersion: Rev. 0; PackageVersion: 121608-A, 12/2008; PackageReference: RJ-6; PackageDescription: 6-Pin Small Outline Transistor Package, Body 2.9 x 1.6 mm, Pitch 0.95 mm; Supplier 1: Digi-Key; Supplier Part Number 1: ADG702LBRT-REEL7TR-ND; Supplier 2: Digi-Key; Supplier Part Number 2: ADG702LBRT-REEL7CT-ND; Supplier 3: Digi-Key; Supplier Part Number 3: ADG702LBRT-REEL7DKR-ND; Supplier 4: Mouser; Supplier Part Number 4: 584-ADG702LBRT-R7; Configuration: SPST; Is OFF: 10pA, 10pA; Packing: Reel; Mounting Technology: Surface Mount; Code_JEDEC: MO-178-AB; ComponentLink1Description: Manufacturer URL; ComponentLink1URL: http://www.analog.com/en/index.html; ComponentLink2Description: Datasheet; ComponentLink2URL: http://www.analog.com/static/imported-files/data_sheets/ADG701L_702L.pdf; ComponentLink3Description: Package Specification; ComponentLink3URL: http://www.analog.com/static/imported-files/packages/PKG_PDF/SOT-23(RJ)/RJ_6.pdf
footprint ADI-RJ-6_N (SOT23, 6-Leads, Body 2.9x1.6mm, Pitch 0.95mm, IPC Medium Density)
footprint ADI-RJ-6_L (SOT23, 6-Leads, Body 2.9x1.6mm, Pitch 0.95mm, IPC High Density)
footprint ADI-RJ-6_M (SOT23, 6-Leads, Body 2.9x1.6mm, Pitch 0.95mm, IPC Low Density)
pins: 1 D "Drain Terminal. May be an input or output.", 2 S "Source Terminal. May be an input or output.", 3 GND (power) "Ground (0 V) Reference", 4 IN (in) "Logic Control Input", 5 NC "No Connect.", 6 VDD (power) "Most Positive Power Supply Potential."

## ADG702LBRTZ-REEL
designator U?
CMOS Low Voltage 2 Ohm SPST Switch, -40 to 85 degC, 6-pin SOT23 (RJ-6), Reel; Manufacturer: Analog Devices; PartNumber: ADG702LBRTZ-REEL; Id, Is (ON): 10pA, 10pA; Max Pos Supply: 5.5V; Min Pos Supply: 1.8V; Power Dissipation: 5uW; Ron (ohms): 2; DatasheetVersion: Rev. 0; PackageVersion: 121608-A, 12/2008; PackageReference: RJ-6; PackageDescription: 6-Pin Small Outline Transistor Package, Body 2.9 x 1.6 mm, Pitch 0.95 mm; Supplier 1: Digi-Key; Supplier Part Number 1: ADG702LBRTZ-REEL-ND; Supplier 2: Mouser; Supplier Part Number 2: 584-ADG702LBRTZ-R; Configuration: SPST; Is OFF: 10pA, 10pA; Packing: Reel; Mounting Technology: Surface Mount; Code_JEDEC: MO-178-AB; ComponentLink1Description: Manufacturer URL; ComponentLink1URL: http://www.analog.com/en/index.html; ComponentLink2Description: Datasheet; ComponentLink2URL: http://www.analog.com/static/imported-files/data_sheets/ADG701L_702L.pdf; ComponentLink3Description: Package Specification; ComponentLink3URL: http://www.analog.com/static/imported-files/packages/PKG_PDF/SOT-23(RJ)/RJ_6.pdf
footprint ADI-RJ-6_N (SOT23, 6-Leads, Body 2.9x1.6mm, Pitch 0.95mm, IPC Medium Density)
footprint ADI-RJ-6_L (SOT23, 6-Leads, Body 2.9x1.6mm, Pitch 0.95mm, IPC High Density)
footprint ADI-RJ-6_M (SOT23, 6-Leads, Body 2.9x1.6mm, Pitch 0.95mm, IPC Low Density)
pins: 1 D "Drain Terminal. May be an input or output.", 2 S "Source Terminal. May be an input or output.", 3 GND (power) "Ground (0 V) Reference", 4 IN (in) "Logic Control Input", 5 NC "No Connect.", 6 VDD (power) "Most Positive Power Supply Potential."